# Altium footprint library UK_Library_PCB.PcbLib: 52 footprints (part 3 of 4)
Each footprint in its own frame and in the unit in brackets; x right, y up, seen from the top. Pads: shape width x height; smd on the part's side, far side on the other; paste and mask are expansions set on the pad; w line width, h text height; cw(c..) or ccw(c..) is an arc to the next point about the centre after c.
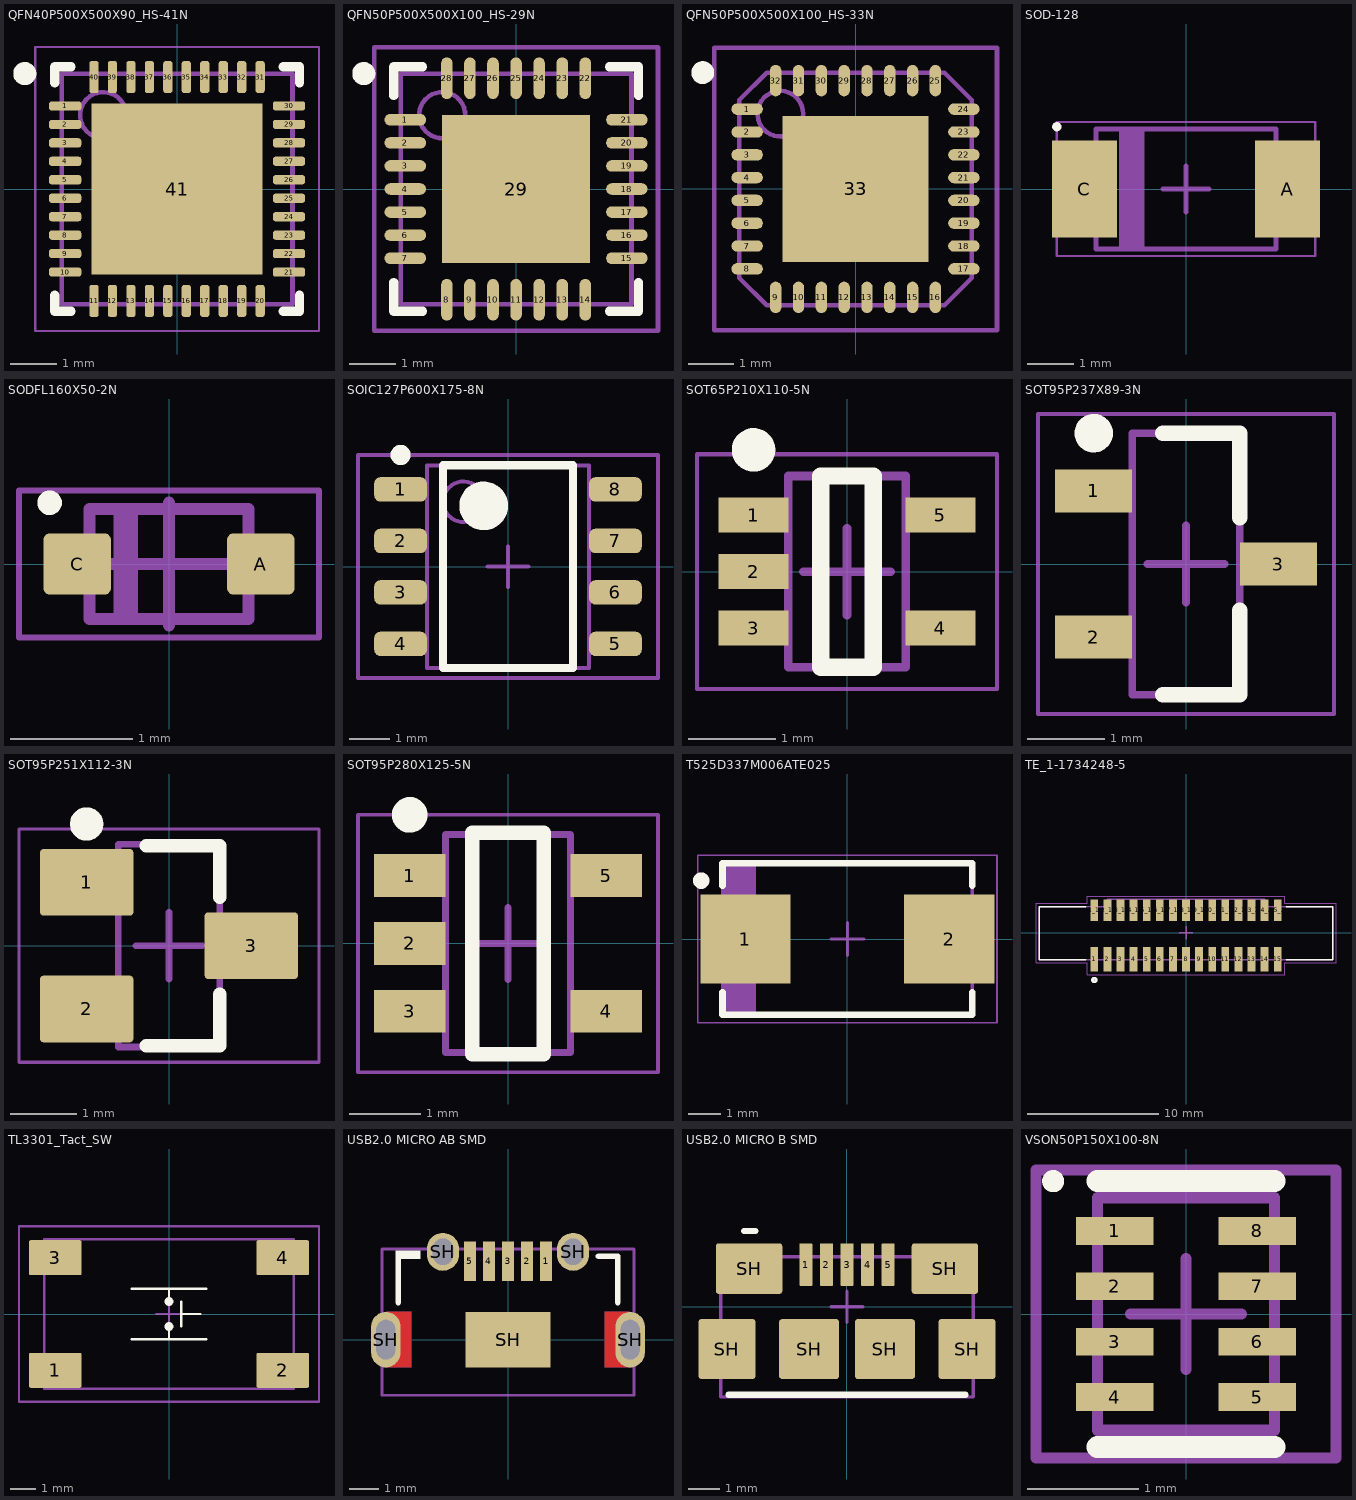
[diagram p2: the footprints below, top view; thin cyan lines are the x and y axes]

## QFN40P500X500X90_HS-41N [mm] "QFN, 40-Leads, Body 5,00x5,00mm, Pitch 0,40mm, Thermal Pad 3,70x3,70mm, IPC Medium Density"
height 0.9
pads (41):
  rrect60% 0.7x0.2 smd mask+0.05: 1(-2.425,1.8) 2(-2.425,1.4) 3(-2.425,1) 4(-2.425,0.6) 5(-2.425,0.2) 6(-2.425,-0.2) 7(-2.425,-0.6) 8(-2.425,-1) 9(-2.425,-1.4) 10(-2.425,-1.8) 21(2.425,-1.8) 22(2.425,-1.4) 23(2.425,-1) 24(2.425,-0.6) 25(2.425,-0.2) 26(2.425,0.2) 27(2.425,0.6) 28(2.425,1) 29(2.425,1.4) 30(2.425,1.8)
  rrect60% 0.2x0.7 smd mask+0.05: 11(-1.8,-2.425) 12(-1.4,-2.425) 13(-1,-2.425) 14(-0.6,-2.425) 15(-0.2,-2.425) 16(0.2,-2.425) 17(0.6,-2.425) 18(1,-2.425) 19(1.4,-2.425) 20(1.8,-2.425) 31(1.8,2.425) 32(1.4,2.425) 33(1,2.425) 34(0.6,2.425) 35(0.2,2.425) 36(-0.2,2.425) 37(-0.6,2.425) 38(-1,2.425) 39(-1.4,2.425) 40(-1.8,2.425)
  rect 3.7x3.7 smd mask+0.05: 41(0,0)
Top Overlay:
  circle w0.25: c-3.3,2.5 r0.125
  lines w0.2: -2.65,-2.3 -2.65,-2.65 -2.3,-2.65 ; -2.65,2.3 -2.65,2.65 -2.3,2.65 ; 2.3,-2.65 2.65,-2.65 2.65,-2.3 ; 2.3,2.65 2.65,2.65 2.65,2.3
Top Component Center:
  lines w0.1: -0.5,0 0.5,0 ; 0,-0.5 0,0.5
Top Assembly:
  circle w0.1: c-1.6,1.6 r0.5
  lines w0.1: -2.5,-2.5 -2.5,2.5 2.5,2.5 2.5,-2.5 -2.5,-2.5
Top Designator:
  text ".Designator" at -7.843,-0.508 h1.52
Top Courtyard:
  lines w0.05: -3.075,-3.075 -3.075,3.075 3.075,3.075 3.075,-3.075 -3.075,-3.075
3D body "QFN40P500X500X90_HS-41N.step": height 0.9, standoff 0, extent -2.501,-2.501 2.501,2.501

## QFN50P500X500X100_HS-29N [mm] "QFN, 28-Leads, Body 5,00x5,00mm, Pitch 0,50mm, Thermal Pad 3,13x3,13mm, IPC Medium Density"
height 1
pads (29):
  oval 0.9x0.25 smd mask+0.07: 1(-2.4,1.5) 2(-2.4,1) 3(-2.4,0.5) 4(-2.4,0) 5(-2.4,-0.5) 6(-2.4,-1) 7(-2.4,-1.5) 15(2.4,-1.5) 16(2.4,-1) 17(2.4,-0.5) 18(2.4,0) 19(2.4,0.5) 20(2.4,1) 21(2.4,1.5)
  oval 0.25x0.9 smd mask+0.07: 8(-1.5,-2.4) 9(-1,-2.4) 10(-0.5,-2.4) 11(0,-2.4) 12(0.5,-2.4) 13(1,-2.4) 14(1.5,-2.4) 22(1.5,2.4) 23(1,2.4) 24(0.5,2.4) 25(0,2.4) 26(-0.5,2.4) 27(-1,2.4) 28(-1.5,2.4)
  rect 3.2x3.2 smd mask+0.07: 29(0,0)
Top Overlay:
  circle w0.25: c-3.3,2.5 r0.125
  lines w0.2: -2.65,-2.025 -2.65,-2.65 -2.025,-2.65 ; -2.65,2.025 -2.65,2.65 -2.025,2.65 ; 2.025,-2.65 2.65,-2.65 2.65,-2.025 ; 2.025,2.65 2.65,2.65 2.65,2.025
Top Component Center:
  lines w0.1: -0.5,0 0.5,0 ; 0,-0.5 0,0.5
Top Assembly:
  circle w0.1: c-1.6,1.6 r0.5
  lines w0.1: -2.5,-2.5 -2.5,2.5 2.5,2.5 2.5,-2.5 -2.5,-2.5
Top Designator:
  text ".Designator" at -7.83,-0.508 h1.52
Top Courtyard:
  lines w0.1: -3.075,-3.075 -3.075,3.075 3.075,3.075 3.075,-3.075 -3.075,-3.075
3D body "QFN50P500X500X100_HS-29N.step": height 1, standoff 0, extent -2.501,-2.501 2.501,2.501

## QFN50P500X500X100_HS-33N [mm] "QFN, 32-Leads, Body 5,00x5,00mm, Pitch 0,50mm, Thermal Pad 3,30x3,30mm, IPC Medium Density"
height 1
pads (33):
  oval 0.69x0.25 smd mask+0.05: 1(-2.375,1.75) 2(-2.375,1.25) 3(-2.375,0.75) 4(-2.375,0.25) 5(-2.375,-0.25) 6(-2.375,-0.75) 7(-2.375,-1.25) 8(-2.375,-1.75) 17(2.375,-1.75) 18(2.375,-1.25) 19(2.375,-0.75) 20(2.375,-0.25) 21(2.375,0.25) 22(2.375,0.75) 23(2.375,1.25) 24(2.375,1.75)
  oval 0.25x0.69 smd mask+0.05: 9(-1.75,-2.375) 10(-1.25,-2.375) 11(-0.75,-2.375) 12(-0.25,-2.375) 13(0.25,-2.375) 14(0.75,-2.375) 15(1.25,-2.375) 16(1.75,-2.375) 25(1.75,2.375) 26(1.25,2.375) 27(0.75,2.375) 28(0.25,2.375) 29(-0.25,2.375) 30(-0.75,2.375) 31(-1.25,2.375) 32(-1.75,2.375)
  rect 3.2x3.2 smd paste-1.6 mask+0.05: 33(0,0)
Top Overlay:
  circle w0.25: c-3.35,2.55 r0.125
Top Paste:
  rectangle: -1.6,0.1 -0.1,1.6
  region: -0.1,-1.6 -0.1,-0.1 -1.6,-0.1 -1.6,-1.6
  region: 1.6,-0.1 0.1,-0.1 0.1,-1.6 1.6,-1.6
  region: 0.1,1.6 0.1,0.1 1.6,0.1 1.6,1.6
Top Component Center:
  lines w0.1: -0.5,0 0.5,0 ; 0,-0.5 0,0.5
Top Assembly:
  circle w0.1: c-1.65,1.65 r0.5
  lines w0.1: -2.55,-1.95 -1.95,-2.55 1.95,-2.55 2.55,-1.95 2.55,1.95 1.95,2.55 -1.95,2.55 -2.55,1.95 -2.55,-1.95
Top Designator:
  text ".Designator" at -7.843,-0.508 h1.52
Top Courtyard:
  lines w0.1: -3.1,-3.1 -3.1,3.1 3.1,3.1 3.1,-3.1 -3.1,-3.1
3D body "QFN50P500X500X100_HS-33N.step": height 1, standoff 0, extent -2.551,-2.551 2.551,2.551

## SOD-128 [mm] "SODFL, 2-Leads, Body 2,45x4,70mm, IPC Medium Density"
height 1.1
pads (2):
  rect 1.4x2.1 smd: A(2.2,0) C(-2.2,0)
Top Overlay:
  circle w0.1: c-2.8,1.35 r0.05
Top Component Center:
  lines w0.1: -0.5,0 0.5,0 ; 0,-0.5 0,0.5
Top Assembly:
  rectangle: -1.45,-1.3 -0.9,1.3
  lines w0.1: -1.95,-1.3 1.95,-1.3 1.95,1.3 -1.95,1.3 -1.95,-1.3
Top Designator:
  text ".Designator" at -7.618,-0.508 h1.52
Top Courtyard:
  lines w0.05: -2.8,-1.45 2.8,-1.45 2.8,1.45 -2.8,1.45 -2.8,-1.45
3D body: height 1.11, standoff 1.1, extent -1.25,-1.2 -0.75,1.2
3D body "SOD-128.step": height 1.1, standoff 0, extent -2.35,-1.3 2.35,1.3

## SODFL160X50-2N [mm] "SOD−523 CASE 502, SODFL, 2-Leads, Body 0,80x1,60mm, IPC Medium Density"
height 0.5
pads (2):
  rrect20% 0.55x0.5 smd mask+0.05: A(0.75,0) C(-0.75,0)
Top Overlay:
  circle w0.1: c-0.975,0.5 r0.05
Top Component Center:
  lines w0.1: -0.5,0 0.5,0 ; 0,-0.5 0,0.5
Top Assembly:
  rectangle: -0.452,-0.45 -0.252,0.45
  lines w0.1: -0.65,-0.45 -0.65,0.45 0.65,0.45 0.65,-0.45 -0.65,-0.45
Top Designator:
  text ".Designator" at -7.618,-0.508 h1.52
Top Courtyard:
  lines w0.05: -1.225,-0.6 -1.225,0.6 1.225,0.6 1.225,-0.6 -1.225,-0.6
3D body "SOD_XV2T1G_ONS.step": height 0.72, standoff 0, extent -0.851,-0.444 0.851,0.444

## SOIC127P600X175-8N [mm] "SOIC, 8-Leads, Body 4,90x3,90mm, Pitch 1,27mm, IPC Medium Density"
height 1.75
pads (8):
  rrect50% 1.3x0.6 smd mask+0.06: 1(-2.65,1.905) 2(-2.65,0.635) 3(-2.65,-0.635) 4(-2.65,-1.905) 5(2.65,-1.905) 6(2.65,-0.635) 7(2.65,0.635) 8(2.65,1.905)
Top Overlay:
  circle w0.25: c-2.65,2.755 r0.125
  circle w0.6: c-0.6,1.5 r0.3
  lines w0.2: -1.6,-2.5 -1.6,2.5 1.6,2.5 1.6,-2.5 -1.6,-2.5
Top Component Center:
  lines w0.1: -0.5,0 0.5,0 ; 0,-0.5 0,0.5
Top Assembly:
  circle w0.1: c-1.1,1.6 r0.5
  lines w0.1: -2,-2.5 -2,2.5 2,2.5 2,-2.5 -2,-2.5
Top Designator:
  text ".Designator" at -7.618,-0.405 h1.52
Top Courtyard:
  lines w0.1: -3.7,-2.75 -3.7,2.75 3.7,2.75 3.7,-2.75 -3.7,-2.75
3D body "SOIC127P600X175-8N.step": height 1.75, standoff 0, extent -3,-2.5 3,2.5

## SOT65P210X110-5N [mm] "SOT23, 5-Leads, Body 2,00x2,10mm, Pitch 0,65mm, IPC Medium Density"
height 1.1
pads (5):
  rect 0.8x0.4 smd mask+0.05: 1(-1.075,0.65) 2(-1.075,0) 3(-1.075,-0.65) 4(1.075,-0.65) 5(1.075,0.65)
Top Overlay:
  circle w0.25: c-1.075,1.4 r0.125
  lines w0.2: -0.3,-1.1 0.3,-1.1 0.3,1.1 -0.3,1.1 -0.3,-1.1
Top Component Center:
  lines w0.1: -0.5,0 0.5,0 ; 0,-0.5 0,0.5
Top Assembly:
  lines w0.1: -0.675,-1.1 -0.675,1.1 0.675,1.1 0.675,-1.1 -0.675,-1.1
Top Designator:
  text ".Designator" at -7.618,-0.37 h1.52
Top Courtyard:
  lines w0.05: -1.725,-1.35 -1.725,1.35 1.725,1.35 1.725,-1.35 -1.725,-1.35
3D body "SOT65P210X110-5N.step": height 1.1, standoff 0, extent -1.2,-1.1 1.2,1.1

## SOT95P237X89-3N [mm] "SOT23, 3-Leads, Body 3,10x2,37mm, Pitch 0,95mm, IPC Medium Density"
height 0.89
pads (3):
  rect 1x0.56 smd mask+0.05: 1(-1.2,0.95) 2(-1.2,-0.95) 3(1.2,0)
Top Overlay:
  circle w0.25: c-1.2,1.7 r0.125
  lines w0.2: -0.3,-1.7 0.7,-1.7 0.7,-0.6 ; -0.3,1.7 0.7,1.7 0.7,0.6
Top Assembly:
  lines w0.1: -0.7,-1.7 0.7,-1.7 0.7,1.7 -0.7,1.7 -0.7,-1.7
Top Designator:
  text ".Designator" at -7.618,-0.508 h1.52
Top Courtyard:
  lines w0.05: -1.925,-1.95 1.925,-1.95 1.925,1.95 -1.925,1.95 -1.925,-1.95
  lines w0.1: -0.5,0 0.5,0 ; 0,-0.5 0,0.5
3D body "SOT95P237X89-3N.step": height 0.89, standoff 0, extent -1.32,-1.7 1.32,1.7

## SOT95P251X112-3N [mm] "SOT23, 3-Leads, Body 2,92x2,51mm, Pitch 0,95mm, IPC Medium Density"
height 1.12
pads (3):
  rrect10% 1.4x1 smd mask+0.05: 1(-1.235,0.95) 2(-1.235,-0.95) 3(1.235,0)
Top Overlay:
  circle w0.25: c-1.235,1.825 r0.125
  lines w0.2: -0.34,-1.5 0.76,-1.5 0.76,-0.725 ; -0.34,1.5 0.76,1.5 0.76,0.725
Top Component Center:
  lines w0.1: -0.5,0 0.5,0 ; 0,-0.5 0,0.5
Top Assembly:
  lines w0.1: -0.76,-1.52 -0.76,1.52 0.76,1.52 0.76,-1.52 -0.76,-1.52
Top Designator:
  text ".Designator" at -7.618,-0.358 h1.52
Top Courtyard:
  lines w0.05: -2.25,-1.75 -2.25,1.75 2.25,1.75 2.25,-1.75 -2.25,-1.75
3D body "SOT95P251X112-3N.step": height 1.12, standoff 0, extent -1.355,-1.52 1.355,1.52

## SOT95P280X125-5N [mm] "SOT23, 5-Leads, Body 2,90x2,80mm, Pitch 0,95mm, IPC Medium Density"
height 1.25
pads (5):
  rect 1x0.6 smd mask+0.05: 1(-1.375,0.95) 2(-1.375,0) 3(-1.375,-0.95) 4(1.375,-0.95) 5(1.375,0.95)
Top Overlay:
  circle w0.25: c-1.375,1.8 r0.125
  lines w0.2: -0.5,-1.55 -0.5,1.55 0.5,1.55 0.5,-1.55 -0.5,-1.55
Top Component Center:
  lines w0.1: -0.5,0 0.5,0 ; 0,-0.5 0,0.5
Top Assembly:
  lines w0.1: -0.875,-1.525 0.875,-1.525 0.875,1.525 -0.875,1.525 -0.875,-1.525
Top Designator:
  text ".Designator" at -7.618,-0.395 h1.52
Top Courtyard:
  lines w0.05: -2.1,-1.8 2.1,-1.8 2.1,1.8 -2.1,1.8 -2.1,-1.8
3D body "SOT95P280X125-5N.step": height 1.25, standoff 0, extent -1.5,-1.525 1.5,1.525

## T525D337M006ATE025 [mm] "Molded Capacitor, 2-Leads, Body 7,30x4,30mm, IPC Medium Density"
height 3.1
pads (2):
  rect 2.75x2.7 smd: 1(-3.1,0) 2(3.1,0)
Top Overlay:
  circle w0.25: c-4.45,1.775 r0.125
  lines w0.2: -3.8,-1.625 -3.8,-2.3 3.8,-2.3 3.8,-1.625 ; -3.8,1.625 -3.8,2.3 3.8,2.3 3.8,1.625
Top Component Center:
  lines w0.1: -0.5,0 0.5,0 ; 0,-0.5 0,0.5
Top Assembly:
  rectangle: -3.8,-2.3 -2.778,2.3
  lines w0.1: -3.8,-2.3 -3.8,2.3 3.8,2.3 3.8,-2.3 -3.8,-2.3
Top Designator:
  text ".Designator" at -7.679,-0.508 h1.52
Top Courtyard:
  lines w0.05: -4.55,-2.55 -4.55,2.55 4.55,2.55 4.55,-2.55 -4.55,-2.55
3D body "T525D337M006ATE025.stp": height 3.05, standoff -0.06, extent -3.8,-2.3 3.8,2.3

## TE_1-1734248-5 [mm] "CONN FPC VERT 15POS 1MM SMD"
pads (30):
  rect 0.6x1.85 smd mask+0.05: 1(-7,-2.025) 2(-6,-2.025) 3(-5,-2.025) 4(-4,-2.025) 5(-3,-2.025) 6(-2,-2.025) 7(-1,-2.025) 8(0,-2.025) 9(1,-2.025) 10(2,-2.025) 11(3,-2.025) 12(4,-2.025) 13(5,-2.025) 14(6,-2.025) 15(7,-2.025)
  rect 0.6x1.65 smd mask+0.05: 1_1(-7,1.725) 2_1(-6,1.725) 3_1(-5,1.725) 4_1(-4,1.725) 5_1(-3,1.725) 6_1(-2,1.725) 7_1(-1,1.725) 8_1(0,1.725) 9_1(1,1.725) 10_1(2,1.725) 11_1(3,1.725) 12_1(4,1.725) 13_1(5,1.725) 14_1(6,1.725) 15_1(7,1.725)
Top Overlay:
  circle w0.2: c-7,-3.6 r0.141
  lines w0.127: -7.65,-2.05 -11.2,-2.05 -11.2,2 -7.65,2 ; 7.65,-2.05 11.2,-2.05 11.2,2 7.65,2
Top Component Center:
  lines w0.1: -0.5,0 0.5,0 ; 0,-0.5 0,0.5
Top Assembly:
  circle w0.2: c-7.001,-3.603 r0.141
  lines w0.127: -11.2,-2.05 -11.2,2 -6,2 -6,2.55 6,2.55 6,2 11.2,2 11.2,-2.05 -11.2,-2.05
Top Designator:
  text ".Designator" at -7.618,-1.017 h1.52
Top 3D Body:
  circle w0.2: c-7,-3.6 r0.141
  lines w0.127: -11.2,-2.05 -11.2,2 -6,2 -6,2.55 6,2.55 6,2 11.2,2 11.2,-2.05 -11.2,-2.05
Top Courtyard:
  lines w0.05: -11.45,-2.3 -11.45,2.25 -7.55,2.25 -7.55,2.8 7.55,2.8 7.55,2.25 11.45,2.25 11.45,-2.3 7.55,-2.3 7.55,-3.2 -7.55,-3.2 -7.55,-2.3 -11.45,-2.3
3D body "step_temp.STEP": height 7.7, standoff 0, extent -11.2,-2.425 11.2,2.425

## TL3301_Tact_SW [mm]
pads (4):
  rrect10% 2.1x1.4 smd mask+0.05: 1(-4.55,-2.25) 2(4.55,-2.25) 3(-4.55,2.25) 4(4.55,2.25)
Top Overlay:
  circle w0.254: c0,0.5 r0.047
  circle w0.254: c0,-0.5 r0.047
  lines w0.1: -1.5,-1 1.5,-1 ; -1.5,1 1.5,1 ; 0,-1 0,-0.5 ; 0,0.5 0,1 ; 0.5,-0.5 0.5,0.5 ; 0.5,0 1.25,0
Top Component Center:
  lines w0.1: -0.5,0 0.5,0 ; 0,-0.5 0,0.5
Top Assembly:
  lines w0.1: -5,-3 -5,3 5,3 5,-3 -5,-3
Top Designator:
  text ".Designator" at -7.618,-0.508 h1.52
Top Courtyard:
  lines w0.1: -6,2.5 -6,3.5 6,3.5 6,-3.5 -6,-3.5 -6,3
3D body "TL3301EFxxxxG.stp": height 7.41, standoff 0.01, extent -5,-3 5,3

## USB2.0 MICRO AB SMD [mm] "CONN RCPT MICRO USB AB 5P SMD RA"
pads (10):
  rect 0.4x1.35 smd mask+0.07: 1(1.3,2.675) 2(0.65,2.675) 3(0,2.675) 4(-0.65,2.675) 5(-1.3,2.675)
  oval 1x1.9 hole 0.65 slot 1.35 at 90 deg mask+0: SH(-4.175,0) SH(4.175,0)
  oval 1.1x1.3 hole 0.7 slot 0.9 at 90 deg mask+0.1: SH(-2.225,3) SH(2.225,3)
  rect 2.9x1.9 smd: SH(0,0)
Top Layer:
  region: 4.106,0.949 4.138,0.947 4.169,0.943 4.2,0.937 4.23,0.93 4.26,0.921 4.29,0.91 4.319,0.898 4.347,0.885 4.375,0.87 4.402,0.853 4.428,0.835 4.453,0.816 4.476,0.796 4.499,0.774 4.521,0.751 4.541,0.728 4.56,0.703 4.578,0.677 4.595,0.65 4.61,0.622 4.623,0.594 4.635,0.565 4.646,0.535 4.655,0.505 4.662,0.475 4.668,0.444 4.672,0.413 4.674,0.381 4.675,0.35 4.675,-0.35 4.674,-0.381 4.672,-0.413 4.668,-0.444 4.662,-0.475 4.655,-0.505 4.646,-0.535 4.635,-0.565 4.623,-0.594 4.61,-0.622 4.595,-0.65 4.578,-0.677 4.56,-0.703 4.541,-0.728 4.521,-0.751 4.499,-0.774 4.476,-0.796 4.453,-0.816 4.428,-0.835 4.402,-0.853 4.375,-0.87 4.347,-0.885 4.319,-0.898 4.29,-0.91 4.26,-0.921 4.23,-0.93 4.2,-0.937 4.169,-0.943 4.138,-0.947 4.106,-0.949 4.075,-0.95 3.3,-0.95 3.3,0.95 4.075,0.95
  region: -3.3,-0.95 -4.075,-0.95 -4.106,-0.949 -4.138,-0.947 -4.169,-0.943 -4.2,-0.937 -4.23,-0.93 -4.26,-0.921 -4.29,-0.91 -4.319,-0.898 -4.347,-0.885 -4.375,-0.87 -4.402,-0.853 -4.428,-0.835 -4.453,-0.816 -4.476,-0.796 -4.499,-0.774 -4.521,-0.751 -4.541,-0.728 -4.56,-0.703 -4.578,-0.677 -4.595,-0.65 -4.61,-0.622 -4.623,-0.594 -4.635,-0.565 -4.646,-0.535 -4.655,-0.505 -4.662,-0.475 -4.668,-0.444 -4.672,-0.413 -4.674,-0.381 -4.675,-0.35 -4.675,0.35 -4.674,0.381 -4.672,0.413 -4.668,0.444 -4.662,0.475 -4.655,0.505 -4.646,0.535 -4.635,0.565 -4.623,0.594 -4.61,0.622 -4.595,0.65 -4.578,0.677 -4.56,0.703 -4.541,0.728 -4.521,0.751 -4.499,0.774 -4.476,0.796 -4.453,0.816 -4.428,0.835 -4.402,0.853 -4.375,0.87 -4.347,0.885 -4.319,0.898 -4.29,0.91 -4.26,0.921 -4.23,0.93 -4.2,0.937 -4.169,0.943 -4.138,0.947 -4.106,0.949 -4.075,0.95 -3.3,0.95
Bottom Layer:
  region: 4.106,0.949 4.138,0.947 4.169,0.943 4.2,0.937 4.23,0.93 4.26,0.921 4.29,0.91 4.319,0.898 4.347,0.885 4.375,0.87 4.402,0.853 4.428,0.835 4.453,0.816 4.476,0.796 4.499,0.774 4.521,0.751 4.541,0.728 4.56,0.703 4.578,0.677 4.595,0.65 4.61,0.622 4.623,0.594 4.635,0.565 4.646,0.535 4.655,0.505 4.662,0.475 4.668,0.444 4.672,0.413 4.674,0.381 4.675,0.35 4.675,-0.35 4.674,-0.381 4.672,-0.413 4.668,-0.444 4.662,-0.475 4.655,-0.505 4.646,-0.535 4.635,-0.565 4.623,-0.594 4.61,-0.622 4.595,-0.65 4.578,-0.677 4.56,-0.703 4.541,-0.728 4.521,-0.751 4.499,-0.774 4.476,-0.796 4.453,-0.816 4.428,-0.835 4.402,-0.853 4.375,-0.87 4.347,-0.885 4.319,-0.898 4.29,-0.91 4.26,-0.921 4.23,-0.93 4.2,-0.937 4.169,-0.943 4.138,-0.947 4.106,-0.949 4.075,-0.95 3.3,-0.95 3.3,0.95 4.075,0.95
  region: -3.3,-0.95 -4.075,-0.95 -4.106,-0.949 -4.138,-0.947 -4.169,-0.943 -4.2,-0.937 -4.23,-0.93 -4.26,-0.921 -4.29,-0.91 -4.319,-0.898 -4.347,-0.885 -4.375,-0.87 -4.402,-0.853 -4.428,-0.835 -4.453,-0.816 -4.476,-0.796 -4.499,-0.774 -4.521,-0.751 -4.541,-0.728 -4.56,-0.703 -4.578,-0.677 -4.595,-0.65 -4.61,-0.622 -4.623,-0.594 -4.635,-0.565 -4.646,-0.535 -4.655,-0.505 -4.662,-0.475 -4.668,-0.444 -4.672,-0.413 -4.674,-0.381 -4.675,-0.35 -4.675,0.35 -4.674,0.381 -4.672,0.413 -4.668,0.444 -4.662,0.475 -4.655,0.505 -4.646,0.535 -4.635,0.565 -4.623,0.594 -4.61,0.622 -4.595,0.65 -4.578,0.677 -4.56,0.703 -4.541,0.728 -4.521,0.751 -4.499,0.774 -4.476,0.796 -4.453,0.816 -4.428,0.835 -4.402,0.853 -4.375,0.87 -4.347,0.885 -4.319,0.898 -4.29,0.91 -4.26,0.921 -4.23,0.93 -4.2,0.937 -4.169,0.943 -4.138,0.947 -4.106,0.949 -4.075,0.95 -3.3,0.95
Top Overlay:
  rectangle: -3.849,2.75 -2.988,3.037
  lines w0.2: -3.75,1.27 -3.75,2.85 -3.095,2.85 ; 3.095,2.85 3.75,2.85 3.75,1.27
Top Solder:
  rectangle: -1.66,1.923 1.613,3.413
  region: 4.112,1.049 4.148,1.046 4.185,1.041 4.221,1.035 4.256,1.026 4.291,1.016 4.326,1.004 4.36,0.989 4.393,0.974 4.425,0.956 4.456,0.937 4.486,0.916 4.516,0.894 4.543,0.87 4.57,0.845 4.595,0.818 4.619,0.791 4.641,0.761 4.662,0.731 4.681,0.7 4.699,0.668 4.714,0.635 4.729,0.601 4.741,0.566 4.751,0.531 4.76,0.496 4.766,0.46 4.771,0.423 4.774,0.387 4.775,0.35 4.775,-0.35 4.774,-0.387 4.771,-0.423 4.766,-0.46 4.76,-0.496 4.751,-0.531 4.741,-0.566 4.729,-0.601 4.714,-0.635 4.699,-0.668 4.681,-0.7 4.662,-0.731 4.641,-0.761 4.619,-0.791 4.595,-0.818 4.57,-0.845 4.543,-0.87 4.516,-0.894 4.486,-0.916 4.456,-0.937 4.425,-0.956 4.393,-0.974 4.36,-0.989 4.326,-1.004 4.291,-1.016 4.256,-1.026 4.221,-1.035 4.185,-1.041 4.148,-1.046 4.112,-1.049 4.075,-1.05 3.2,-1.05 3.2,1.05 4.075,1.05
  region: -3.2,-1.05 -4.075,-1.05 -4.112,-1.049 -4.148,-1.046 -4.185,-1.041 -4.221,-1.035 -4.256,-1.026 -4.291,-1.016 -4.326,-1.004 -4.36,-0.989 -4.393,-0.974 -4.425,-0.956 -4.456,-0.937 -4.486,-0.916 -4.516,-0.894 -4.543,-0.87 -4.57,-0.845 -4.595,-0.818 -4.619,-0.791 -4.641,-0.761 -4.662,-0.731 -4.681,-0.7 -4.699,-0.668 -4.714,-0.635 -4.729,-0.601 -4.741,-0.566 -4.751,-0.531 -4.76,-0.496 -4.766,-0.46 -4.771,-0.423 -4.774,-0.387 -4.775,-0.35 -4.775,0.35 -4.774,0.387 -4.771,0.423 -4.766,0.46 -4.76,0.496 -4.751,0.531 -4.741,0.566 -4.729,0.601 -4.714,0.635 -4.699,0.668 -4.681,0.7 -4.662,0.731 -4.641,0.761 -4.619,0.791 -4.595,0.818 -4.57,0.845 -4.543,0.87 -4.516,0.894 -4.486,0.916 -4.456,0.937 -4.425,0.956 -4.393,0.974 -4.36,0.989 -4.326,1.004 -4.291,1.016 -4.256,1.026 -4.221,1.035 -4.185,1.041 -4.148,1.046 -4.112,1.049 -4.075,1.05 -3.2,1.05
Bottom Solder:
  region: 4.112,1.049 4.148,1.046 4.185,1.041 4.221,1.035 4.256,1.026 4.291,1.016 4.326,1.004 4.36,0.989 4.393,0.974 4.425,0.956 4.456,0.937 4.486,0.916 4.516,0.894 4.543,0.87 4.57,0.845 4.595,0.818 4.619,0.791 4.641,0.761 4.662,0.731 4.681,0.7 4.699,0.668 4.714,0.635 4.729,0.601 4.741,0.566 4.751,0.531 4.76,0.496 4.766,0.46 4.771,0.423 4.774,0.387 4.775,0.35 4.775,-0.35 4.774,-0.387 4.771,-0.423 4.766,-0.46 4.76,-0.496 4.751,-0.531 4.741,-0.566 4.729,-0.601 4.714,-0.635 4.699,-0.668 4.681,-0.7 4.662,-0.731 4.641,-0.761 4.619,-0.791 4.595,-0.818 4.57,-0.845 4.543,-0.87 4.516,-0.894 4.486,-0.916 4.456,-0.937 4.425,-0.956 4.393,-0.974 4.36,-0.989 4.326,-1.004 4.291,-1.016 4.256,-1.026 4.221,-1.035 4.185,-1.041 4.148,-1.046 4.112,-1.049 4.075,-1.05 3.2,-1.05 3.2,1.05 4.075,1.05
  region: -3.2,-1.05 -4.075,-1.05 -4.112,-1.049 -4.148,-1.046 -4.185,-1.041 -4.221,-1.035 -4.256,-1.026 -4.291,-1.016 -4.326,-1.004 -4.36,-0.989 -4.393,-0.974 -4.425,-0.956 -4.456,-0.937 -4.486,-0.916 -4.516,-0.894 -4.543,-0.87 -4.57,-0.845 -4.595,-0.818 -4.619,-0.791 -4.641,-0.761 -4.662,-0.731 -4.681,-0.7 -4.699,-0.668 -4.714,-0.635 -4.729,-0.601 -4.741,-0.566 -4.751,-0.531 -4.76,-0.496 -4.766,-0.46 -4.771,-0.423 -4.774,-0.387 -4.775,-0.35 -4.775,0.35 -4.774,0.387 -4.771,0.423 -4.766,0.46 -4.76,0.496 -4.751,0.531 -4.741,0.566 -4.729,0.601 -4.714,0.635 -4.699,0.668 -4.681,0.7 -4.662,0.731 -4.641,0.761 -4.619,0.791 -4.595,0.818 -4.57,0.845 -4.543,0.87 -4.516,0.894 -4.486,0.916 -4.456,0.937 -4.425,0.956 -4.393,0.974 -4.36,0.989 -4.326,1.004 -4.291,1.016 -4.256,1.026 -4.221,1.035 -4.185,1.041 -4.148,1.046 -4.112,1.049 -4.075,1.05 -3.2,1.05
Top Component Center:
  lines w0.1: -0.5,0 0.5,0 ; 0,-0.5 0,0.5
Top Assembly:
  lines w0.1: -4.3,-1.9 -4.3,3.1 4.3,3.1 4.3,-1.9 -4.3,-1.9
Top Designator:
  text ".Designator" at -7.618,-0.033 h1.52
3D body "475900001.stp": height 2.72, standoff -0.63, extent -4.325,-2.8 4.325,3.1

## USB2.0 MICRO B SMD [mm] "CONN RCPT USB2.0 MICRO B SMD R/A"
pads (11):
  rrect10% 0.4x1.35 smd mask+0.05: 1(-1.3,1.338) 2(-0.65,1.338) 3(0,1.338) 4(0.65,1.338) 5(1.3,1.338)
  rrect10% 1.8x1.9 smd mask+0.05: SH(-3.8,-1.338) SH(3.8,-1.338)
  rrect10% 2.1x1.6 smd mask+0.05: SH(-3.1,1.212) SH(3.1,1.212)
  rrect10% 1.9x1.9 smd mask+0.05: SH(-1.2,-1.338) SH(1.2,-1.338)
Top Overlay:
  lines w0.2: -3.75,-2.788 3.75,-2.788 ; -3.25,2.4 -2.9,2.4
Top Solder:
  rectangle: -2.243,-2.338 2.259,-0.353
  rectangle: -1.612,0.602 1.585,2.06
Top Component Center:
  lines w0.1: -0.5,0 0.5,0 ; 0,-0.5 0,0.5
Top Assembly:
  lines w0.1: -4,-2.854 -4,1.587 4,1.587 4,-2.854 -4,-2.854
Top Designator:
  text ".Designator" at -7.618,-1.287 h1.52
3D body "10118192-0001LF.STEP": height 2.57, standoff -0.23, extent -3.955,-4.059 3.956,1.607

## VSON50P150X100-8N [mm] "VSON, 8-Leads, Body 2,00x1,50mm, Pitch 0,50mm, IPC Medium Density"
height 1
pads (8):
  rect 0.7x0.25 smd mask+0.05: 1(-0.645,0.75) 2(-0.645,0.25) 3(-0.645,-0.25) 4(-0.645,-0.75) 5(0.645,-0.75) 6(0.645,-0.25) 7(0.645,0.25) 8(0.645,0.75)
Top Overlay:
  circle w0.1: c-1.2,1.2 r0.05
  lines w0.2: -0.8,-1.2 0.8,-1.2 ; -0.8,1.2 0.8,1.2
Top Component Center:
  lines w0.1: -0.5,0 0.5,0 ; 0,-0.5 0,0.5
Top Assembly:
  lines w0.1: -0.8,-1.05 -0.8,1.05 0.8,1.05 0.8,-1.05 -0.8,-1.05
Top Designator:
  text ".Designator" at -7.618,-0.508 h1.52
Top Courtyard:
  lines w0.1: -1.355,-1.3 -1.355,1.3 1.355,1.3 1.355,-1.3 -1.355,-1.3
3D body "VSON50P150X100-8N.step": height 1, standoff 0, extent -0.801,-1.05 0.801,1.05